# Altium schematic symbol library CONN1X8_Terminal Header.Schlib: 1 symbol
Pins are listed as number, name and electrical type; pins without a type are passive.

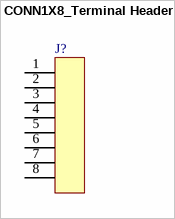
[diagram p0: symbol CONN1X8_Terminal Header]

## CONN1X8_Terminal Header
designator J?
footprint Terminal Block_5.08mm (Terminal Block)
pins: 1, 2, 3, 4, 5, 6, 7, 8